# Altium schematic symbol library LM324.SchLib: 1 symbol
Pins are listed as number, name and electrical type; pins without a type are passive.

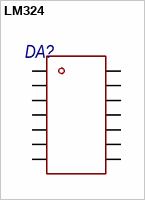
[diagram p0: symbol LM324]

## LM324
designator DA?
footprint SOIC-14
pins: 1 OUT1, 2 IN1-, 3 IN1+, 4 VCC, 5 IN2+, 6 IN2-, 7 OUT2, 8 OUT3, 9 IN3-, 10 IN3+, 11 GND, 12 IN4+, 13 IN4-, 14 OUT4